# Altium schematic symbol library Passives.SchLib: 19 symbols
Pins are listed as number, name and electrical type; pins without a type are passive.

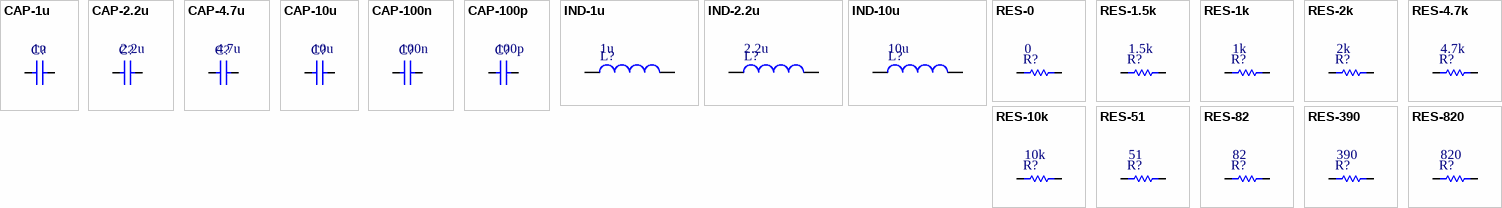
[diagram p0: symbols CAP-1u to RES-820]

## CAP-1u
designator C?  value 1u
Capacitor; Publisher: Jason Wright
simulation model CAP (Capacitor)
signal-integrity model Cap
footprint CAP0603 (Chip Capacitor, 2-Leads, Body 1.60x0.80mm, IPC Medium Density)
footprint CAP0402 (Chip Capacitor, 2-Leads, Body 1.00x0.50mm, IPC Medium Density)
pins: 1, 2

## CAP-2.2u
designator C?  value 2.2u
Capacitor; Publisher: Jason Wright
simulation model CAP (Capacitor)
signal-integrity model Cap
footprint CAP0603 (Chip Capacitor, 2-Leads, Body 1.60x0.80mm, IPC Medium Density)
footprint CAP0402 (Chip Capacitor, 2-Leads, Body 1.00x0.50mm, IPC Medium Density)
pins: 1, 2

## CAP-4.7u
designator C?  value 4.7u
Capacitor; Publisher: Jason Wright
simulation model CAP (Capacitor)
signal-integrity model Cap
footprint CAP0603 (Chip Capacitor, 2-Leads, Body 1.60x0.80mm, IPC Medium Density)
footprint CAP0402 (Chip Capacitor, 2-Leads, Body 1.00x0.50mm, IPC Medium Density)
pins: 1, 2

## CAP-10u
designator C?  value 10u
Capacitor; Publisher: Jason Wright
simulation model CAP (Capacitor)
signal-integrity model Cap
footprint CAP0603 (Chip Capacitor, 2-Leads, Body 1.60x0.80mm, IPC Medium Density)
footprint CAP0402 (Chip Capacitor, 2-Leads, Body 1.00x0.50mm, IPC Medium Density)
pins: 1, 2

## CAP-100n
designator C?  value 100n
Capacitor; Publisher: Jason Wright
simulation model CAP (Capacitor)
signal-integrity model Cap
footprint CAP0402 (Chip Capacitor, 2-Leads, Body 1.00x0.50mm, IPC Medium Density)
footprint CAP0603 (Chip Capacitor, 2-Leads, Body 1.60x0.80mm, IPC Medium Density)
pins: 1, 2

## CAP-100p
designator C?  value 100p
Capacitor; Publisher: Jason Wright
simulation model CAP (Capacitor)
signal-integrity model Cap
footprint CAP0402 (Chip Capacitor, 2-Leads, Body 1.00x0.50mm, IPC Medium Density)
footprint CAP0603 (Chip Capacitor, 2-Leads, Body 1.60x0.80mm, IPC Medium Density)
pins: 1, 2

## IND-1u
designator L?  value 1u
Inductor; Code_IEC: 1005; Published: 8-Jun-2000; LatestRevisionDate: 29-May-2009; LatestRevisionNote: IPC-7351 Footprint Added.; PackageReference: 0402-A; Publisher: Altium Limited; PackageDescription: Chip Inductor; Code_JEITA: 0402
footprint 0402-A (Chip Inductor, Body 1.0x0.5mm, IPC High Density)
footprint INDC1608L (Chip Inductor, Body 1.6x0.8mm, IPC High Density)
footprint 2029 (Chip Inductor, Body 2.0x1.2mm, IPC High Density)
footprint 0603 (Chip Inductor, Body 0.6x0.3mm, IPC High Density)
footprint INDC3216 (Chip Inductor, Body 3.2x1.6mm, IPC High Density)
footprint INDC4532 (Chip Inductor, Body 4.5x3.2mm, IPC High Density)
simulation model INDUCTOR (Inductor)
signal-integrity model Inductor
footprint IND0806 (Chip Inductor, 2-Leads, Body 2.00x1.80mm, IPC Medium Density)
pins: 1, 2

## IND-2.2u
designator L?  value 2.2u
Inductor; Code_IEC: 1005; Published: 8-Jun-2000; LatestRevisionDate: 29-May-2009; LatestRevisionNote: IPC-7351 Footprint Added.; PackageReference: 0402-A; Publisher: Altium Limited; PackageDescription: Chip Inductor; Code_JEITA: 0402
footprint 0402-A (Chip Inductor, Body 1.0x0.5mm, IPC High Density)
footprint INDC1608L (Chip Inductor, Body 1.6x0.8mm, IPC High Density)
footprint 2029 (Chip Inductor, Body 2.0x1.2mm, IPC High Density)
footprint 0603 (Chip Inductor, Body 0.6x0.3mm, IPC High Density)
footprint INDC3216 (Chip Inductor, Body 3.2x1.6mm, IPC High Density)
footprint INDC4532 (Chip Inductor, Body 4.5x3.2mm, IPC High Density)
simulation model INDUCTOR (Inductor)
signal-integrity model Inductor
footprint IND0806 (Chip Inductor, 2-Leads, Body 2.00x1.80mm, IPC Medium Density)
pins: 1, 2

## IND-10u
designator L?  value 10u
Inductor; Code_IEC: 1005; Published: 8-Jun-2000; LatestRevisionDate: 29-May-2009; LatestRevisionNote: IPC-7351 Footprint Added.; PackageReference: 0402-A; Publisher: Altium Limited; PackageDescription: Chip Inductor; Code_JEITA: 0402
footprint 0402-A (Chip Inductor, Body 1.0x0.5mm, IPC High Density)
footprint INDC1608L (Chip Inductor, Body 1.6x0.8mm, IPC High Density)
footprint 2029 (Chip Inductor, Body 2.0x1.2mm, IPC High Density)
footprint 0603 (Chip Inductor, Body 0.6x0.3mm, IPC High Density)
footprint INDC3216 (Chip Inductor, Body 3.2x1.6mm, IPC High Density)
footprint INDC4532 (Chip Inductor, Body 4.5x3.2mm, IPC High Density)
simulation model INDUCTOR (Inductor)
signal-integrity model Inductor
footprint IND0806 (Chip Inductor, 2-Leads, Body 2.00x1.80mm, IPC Medium Density)
pins: 1, 2

## RES-0
designator R?  value 0
Resistor; Published: 29-Jan-2018; LatestRevisionDate: 29-Jan-2018; Publisher: Jason Wright
simulation model RESISTOR (Resistor)
signal-integrity model Res
footprint RES0402 (Chip Resistor, 2-Leads, Body 1.00x0.50mm, IPC Medium Density)
pins: 1, 2

## RES-1.5k
designator R?  value 1.5k
Resistor; Published: 29-Jan-2018; LatestRevisionDate: 29-Jan-2018; Publisher: Jason Wright
simulation model RESISTOR (Resistor)
signal-integrity model Res
footprint RES0402 (Chip Resistor, 2-Leads, Body 1.00x0.50mm, IPC Medium Density)
pins: 1, 2

## RES-1k
designator R?  value 1k
Resistor; Published: 29-Jan-2018; LatestRevisionDate: 29-Jan-2018; Publisher: Jason Wright
simulation model RESISTOR (Resistor)
signal-integrity model Res
footprint RES0402 (Chip Resistor, 2-Leads, Body 1.00x0.50mm, IPC Medium Density)
pins: 1, 2

## RES-2k
designator R?  value 2k
Resistor; Published: 29-Jan-2018; LatestRevisionDate: 29-Jan-2018; Publisher: Jason Wright
simulation model RESISTOR (Resistor)
signal-integrity model Res
footprint RES0402 (Chip Resistor, 2-Leads, Body 1.00x0.50mm, IPC Medium Density)
pins: 1, 2

## RES-4.7k
designator R?  value 4.7k
Resistor; Published: 29-Jan-2018; LatestRevisionDate: 29-Jan-2018; Publisher: Jason Wright
simulation model RESISTOR (Resistor)
signal-integrity model Res
footprint RES0402 (Chip Resistor, 2-Leads, Body 1.00x0.50mm, IPC Medium Density)
pins: 1, 2

## RES-10k
designator R?  value 10k
Resistor; Published: 29-Jan-2018; LatestRevisionDate: 29-Jan-2018; Publisher: Jason Wright
simulation model RESISTOR (Resistor)
signal-integrity model Res
footprint RES0402 (Chip Resistor, 2-Leads, Body 1.00x0.50mm, IPC Medium Density)
pins: 1, 2

## RES-51
designator R?  value 51
Resistor; Published: 29-Jan-2018; LatestRevisionDate: 29-Jan-2018; Publisher: Jason Wright
simulation model RESISTOR (Resistor)
signal-integrity model Res
footprint RES0402 (Chip Resistor, 2-Leads, Body 1.00x0.50mm, IPC Medium Density)
pins: 1, 2

## RES-82
designator R?  value 82
Resistor; Published: 29-Jan-2018; LatestRevisionDate: 29-Jan-2018; Publisher: Jason Wright
simulation model RESISTOR (Resistor)
signal-integrity model Res
footprint RES0402 (Chip Resistor, 2-Leads, Body 1.00x0.50mm, IPC Medium Density)
pins: 1, 2

## RES-390
designator R?  value 390
Resistor; Published: 29-Jan-2018; LatestRevisionDate: 29-Jan-2018; Publisher: Jason Wright
simulation model RESISTOR (Resistor)
signal-integrity model Res
footprint RES0402 (Chip Resistor, 2-Leads, Body 1.00x0.50mm, IPC Medium Density)
pins: 1, 2

## RES-820
designator R?  value 820
Resistor; Published: 29-Jan-2018; LatestRevisionDate: 29-Jan-2018; Publisher: Jason Wright
simulation model RESISTOR (Resistor)
signal-integrity model Res
footprint RES0402 (Chip Resistor, 2-Leads, Body 1.00x0.50mm, IPC Medium Density)
pins: 1, 2